# Altium schematic symbol library 5ko.SchLib: 84 symbols
Pins are listed as number, name and electrical type; pins without a type are passive.

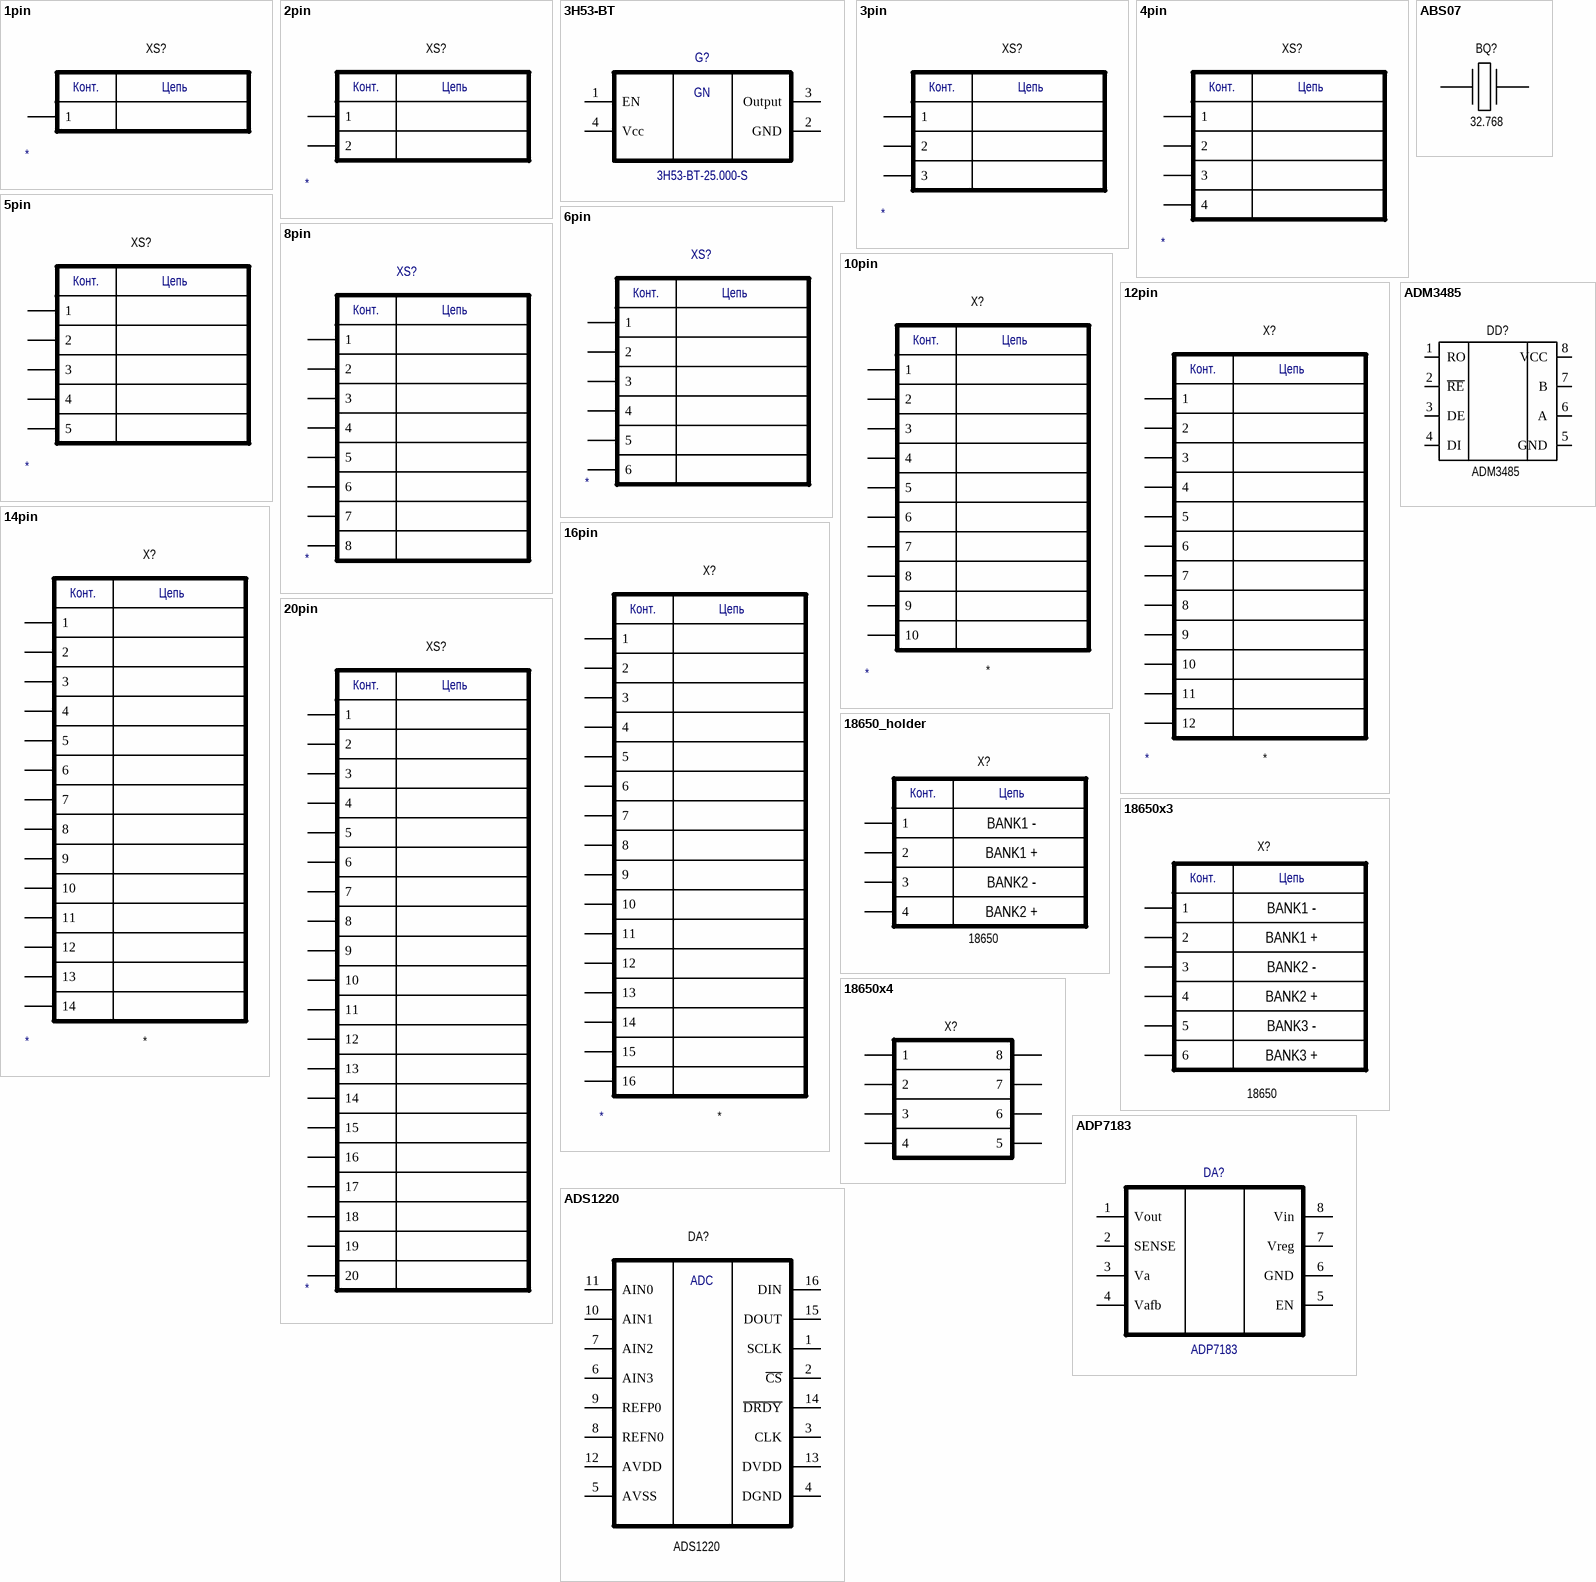
[diagram p0: symbols 1pin to ADS1220]

## 1pin
designator XS?
Manufacturer: *; PartNumber: *
footprint Test_point
footprint lam 4x2
footprint LAM 3x1.5
pins: 1
text: Конт.; Цепь

## 2pin
designator XS?
Manufacturer: *; PartNumber: *
footprint PLS-2
footprint DS1070-2 (PLS-2 with fix)
footprint IPEX
footprint B2B-XH-A (2 pin DC plug)
footprint PKLCS1212E (Buzzer)
pins: 1, 2
text: Конт.; Цепь

## 3H53-BT
designator G?, comment 3H53-BT-25.000-S
footprint GEN_5032 (3H53-BT)
pins: 1 EN, 2 GND, 3 Output, 4 Vcc
text: GN

## 3pin
designator XS?
Manufacturer: *; PartNumber: *
footprint PLS-3
footprint PCB_jumper
footprint СI1103М1V (3pin)
footprint B3B-XH-A (3 pin DC plug)
pins: 1, 2, 3
text: Конт.; Цепь

## 4pin
designator XS?
Manufacturer: *; PartNumber: *
footprint PLS-4
footprint СI1104М1V (4pin)
footprint B4B-XH-A (4 pin DC plug)
pins: 1, 2, 3, 4
text: Конт.; Цепь

## 5pin
designator XS?
Manufacturer: *; PartNumber: *
footprint PLS-5
footprint СI1105М1V (5pin)
pins: 1, 2, 3, 4, 5
text: Конт.; Цепь

## 6pin
designator XS?
Manufacturer: *; PartNumber: *
footprint PLS-6
footprint СI1106М1V (6pin)
footprint PLD-6
pins: 1, 2, 3, 4, 5, 6
text: Конт.; Цепь

## 8pin
designator XS?
Manufacturer: *; PartNumber: *
footprint СI1108М1V (8pin)
footprint PLD-8
footprint PBD-8
footprint 4x18650 (Holder 4x18650)
pins: 1, 2, 3, 4, 5, 6, 7, 8
text: Конт.; Цепь

## 10pin
designator X?
Manufacturer: *; PartNumber: *
footprint СI1110М1V (8pin)
footprint PBD-10
pins: 1, 2, 3, 4, 5, 6, 7, 8, 9, 10
text: Конт.; Цепь

## 12pin
designator X?
Manufacturer: *; PartNumber: *
footprint PBD-12
footprint PLD-12
pins: 1, 2, 3, 4, 5, 6, 7, 8, 9, 10, 11, 12
text: Конт.; Цепь

## 14pin
designator X?
Manufacturer: *; PartNumber: *
footprint PBD-14
footprint PLD-14
pins: 1, 2, 3, 4, 5, 6, 7, 8, 9, 10, 11, 12, 13, 14
text: Конт.; Цепь

## 16pin
designator X?
Manufacturer: *; PartNumber: *
footprint PBD-16
footprint PLD-16
pins: 1, 2, 3, 4, 5, 6, 7, 8, 9, 10, 11, 12, 13, 14, 15, 16
text: Конт.; Цепь

## 20pin
designator XS?
Manufacturer: *; PartNumber: *
footprint 20P-JMDSS-G-1-TF (20 pin plug)
footprint 20R-JMDSS-G-1-TF (20 pin Receptacle)
footprint 20PX.0-JMCS-G-TF (20 pin board-to-board)
footprint 20R-JMCS-G-TF
pins: 1, 2, 3, 4, 5, 6, 7, 8, 9, 10, 11, 12, 13, 14, 15, 16, 17, 18, 19, 20
text: Конт.; Цепь

## 18650_holder
designator X?, comment 18650
footprint 18650_holder
footprint 16-0802-9 (18650 holder)
pins: 1, 2, 3, 4
text: Конт.; Цепь; BANK1 -; BANK1 +; BANK2 -; BANK2 +

## 18650x3
designator X?, comment 18650
pins: 1, 2, 3, 4, 5, 6
text: Конт.; Цепь; BANK1 -; BANK1 +; BANK2 -; BANK2 +; BANK3 -; BANK3 +

## 18650x4
designator X?, comment 4x18650  (value not drawn)
Ruichi 4x18650
footprint 4x18650 (Holder 4x18650)
pins: 1, 2, 3, 4, 5, 6, 7, 8

## ABS07
designator BQ?  value 32.768  (hidden comment: ABS07)
footprint ABS07 (32.768)
pins: 1, 2

## ADM3485
designator DD?
RS485
footprint SOIC8
pins: 1 RO, 2 ~{RE}, 3 DE, 4 DI, 5 GND, 6 A, 7 B, 8 VCC

## ADP7183
designator DA?
footprint LFCSP-8
pins: 1 Vout, 2 SENSE, 3 Va, 4 Vafb, 5 EN, 6 GND, 7 Vreg, 8 Vin

## ADS1220
designator DA?
ADC 4ch
footprint TSSOP-16
pins: 1 SCLK, 2 ~{CS}, 3 CLK, 4 DGND, 5 AVSS, 6 AIN3, 7 AIN2, 8 REFN0, 9 REFP0, 10 AIN1, 11 AIN0, 12 AVDD, 13 DVDD, 14 ~{DRDY}, 15 DOUT, 16 DIN
text: ADC

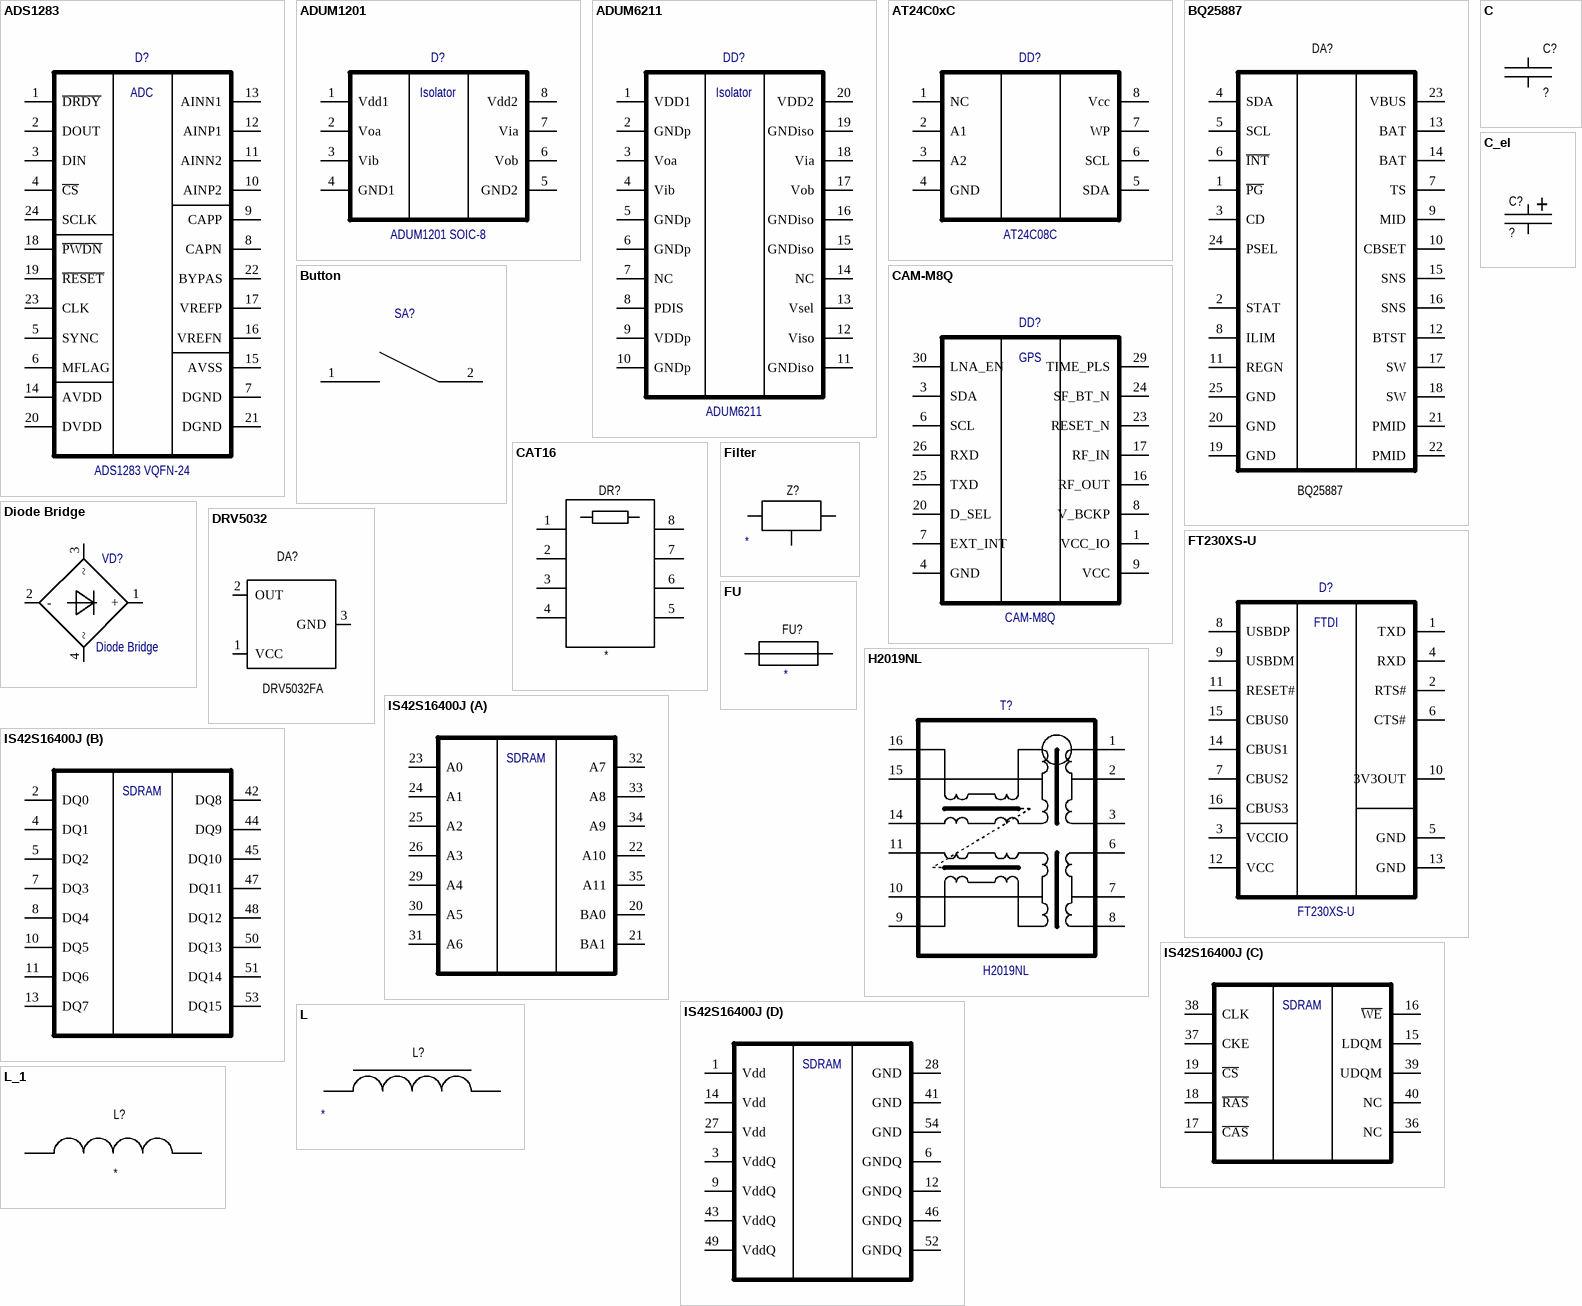
[diagram p1: symbols ADS1283 to L_1]

## ADS1283
designator D?, comment ADS1283 VQFN-24
ADC 2ch
footprint VQFN24_8x8x4x4
pins: 1 ~{DRDY}, 2 DOUT, 3 DIN, 4 ~{CS}, 5 SYNC, 6 MFLAG, 7 DGND, 8 CAPN, 9 CAPP, 10 AINP2, 11 AINN2, 12 AINP1, 13 AINN1, 14 AVDD, 15 AVSS, 16 VREFN, 17 VREFP, 18 ~{PWDN}, 19 ~{RESET}, 20 DVDD, 21 DGND, 22 BYPAS, 23 CLK, 24 SCLK
text: ADC

## ADUM1201
designator D?, comment ADUM1201 SOIC-8
footprint SOIC8
pins: 1 Vdd1, 2 Voa, 3 Vib, 4 GND1, 5 GND2, 6 Vob, 7 Via, 8 Vdd2
text: Isolator

## ADUM6211
designator DD?
footprint SSOP-20 (7.2 х 5.3)
pins: 1 VDD1, 2 GNDp, 3 Voa, 4 Vib, 5 GNDp, 6 GNDp, 7 NC, 8 PDIS, 9 VDDp, 10 GNDp, 11 GNDiso, 12 Viso, 13 Vsel, 14 NC, 15 GNDiso, 16 GNDiso, 17 Vob, 18 Via, 19 GNDiso, 20 VDD2
text: Isolator

## AT24C0xC
designator DD?, comment AT24C08C
footprint SOIC8
pins: 1 NC, 2 A1, 3 A2, 4 GND, 5 SDA, 6 SCL, 7 WP, 8 Vcc

## BQ25887
designator DA?
footprint VQFN-24
pins: 1 ~{PG}, 2 STAT, 3 CD, 4 SDA, 5 SCL, 6 ~{INT}, 7 TS, 8 ILIM, 9 MID, 10 CBSET, 11 REGN, 12 BTST, 13 BAT, 14 BAT, 15 SNS, 16 SNS, 17 SW, 18 SW, 19 GND, 20 GND, 21 PMID, 22 PMID, 23 VBUS, 24 PSEL, 25 GND

## Button
designator SA?  (value not drawn)
footprint KLS7_12x12 (DIP Button)
footprint KLS7_6x6 (SMD Button)
pins: 1, 2

## C
designator C?  (value not drawn)
Tolerance: %; Voltage: В; PartNumber: *; Dielectric: *; Case: *; Mount: *; Value: ?
footprint C0805 (Chip Capacitor, 2-Leads, Body 2,00x1,25mm, IPC Medium Density)
footprint C1206 (Chip Capacitor, 2-Leads, Body 3,20x1,60mm, IPC Medium Density)
footprint C0603
pins: 1, 2

## C_el
designator C?  (value not drawn)
Tolerance: %; Voltage: V; Dielectric: *; PartNumber: *; Case: *; Mount: *; Value: ?
footprint Case A
footprint Case D
footprint CASE B
pins: 1, 2
text: +

## CAM-M8Q
designator DD?
footprint CAM-M8Q
pins: 1 VCC_IO, 3 SDA, 4 GND, 5 GND hidden to GND, 6 SCL, 7 EXT_INT, 8 V_BCKP, 9 VCC, 10 GND hidden to GND, 11 GND hidden to GND, 12 GND hidden to GND, 13 GND hidden to GND, 14 GND hidden to GND, 15 GND hidden to GND, 16 RF_OUT, 17 RF_IN, 18 GND hidden to GND, 19 GND hidden to GND, 20 D_SEL, 21 GND hidden to GND, 22 GND hidden to GND, 23 RESET_N, 24 SF_BT_N, 25 TXD, 26 RXD, 27 GND hidden to GND, 29 TIME_PLS, 30 LNA_EN, 31 GND hidden to GND
text: GPS

## CAT16
designator DR?
footprint CAT16 (Chip Array, Concave, 8-Leads, Pitch 0,80mm,  Body 3,20x1,55mm,  IPC Medium Density)
pins: 1, 2, 3, 4, 5, 6, 7, 8

## Diode Bridge
designator VD?
footprint DF01S
pins: 1 +, 2 -, 3 ~, 4 ~

## DRV5032
designator DA?, comment DRV5032FA
footprint SOT-23
pins: 1 VCC, 2 OUT, 3 GND

## Filter
designator Z?
PartNumber: *; Manufacturer: *; Value: *
footprint NFE61P
pins: 1, 2, 3 GND

## FT230XS-U
designator D?
footprint SSOP-16
pins: 1 TXD, 2 RTS#, 3 VCCIO, 4 RXD, 5 GND, 6 CTS#, 7 CBUS2, 8 USBDP, 9 USBDM, 10 3V3OUT, 11 RESET#, 12 VCC, 13 GND, 14 CBUS1, 15 CBUS0, 16 CBUS3
text: FTDI

## FU
designator FU?
Manufacturer: *; Voltage: *; Current: *; Case: *; PartNumber: *
footprint MF-R090 (Предохранитель 900 мА, 60 В)
footprint Fuse
pins: 1, 2

## H2019NL
designator T?
footprint SO16_H2019NL_PUL
pins: 1, 2, 3, 6, 7, 8, 9, 10, 11, 14, 15, 16

## IS42S16400J
designator *  (value not drawn)
footprint TSOP-54 (TSOP, 54-Leads, Body 22.22x10.16mm, Pitch 0.80mm, IPC Medium Density)
part A pins: 20 BA0, 21 BA1, 22 A10, 23 A0, 24 A1, 25 A2, 26 A3, 29 A4, 30 A5, 31 A6, 32 A7, 33 A8, 34 A9, 35 A11
part B pins: 2 DQ0, 4 DQ1, 5 DQ2, 7 DQ3, 8 DQ4, 10 DQ5, 11 DQ6, 13 DQ7, 42 DQ8, 44 DQ9, 45 DQ10, 47 DQ11, 48 DQ12, 50 DQ13, 51 DQ14, 53 DQ15
part C pins: 15 LDQM, 16 ~{WE}, 17 ~{CAS}, 18 ~{RAS}, 19 ~{CS}, 36 NC, 37 CKE, 38 CLK, 39 UDQM, 40 NC
part D pins: 1 Vdd, 3 VddQ, 6 GNDQ, 9 VddQ, 12 GNDQ, 14 Vdd, 27 Vdd, 28 GND, 41 GND, 43 VddQ, 46 GNDQ, 49 VddQ, 52 GNDQ, 54 GND
part A text: SDRAM
part B text: SDRAM
part C text: SDRAM
part D text: SDRAM

## L
designator L?
Manufacturer: *; PartNumber: *; Value: *
footprint Ind_6.5x6.5
footprint IND_6.5x6.5_VISHAY
footprint INDC_0603 (Chip Inductor, 2-Leads, Body 1,60x1,00mm, IPC Medium Density)
footprint INDC3225X170N (Chip Inductor, 2-Leads, Body 3.2x2.5mm, IPC Medium Density)
pins: 1, 2

## L_1
designator L?
footprint Ind_6.5x6.5
footprint IND_6.5x6.5_VISHAY
footprint INDC_0603 (Chip Inductor, 2-Leads, Body 1,60x1,00mm, IPC Medium Density)
footprint INDC3225X170N (Chip Inductor, 2-Leads, Body 3.2x2.5mm, IPC Medium Density)
pins: 1, 2

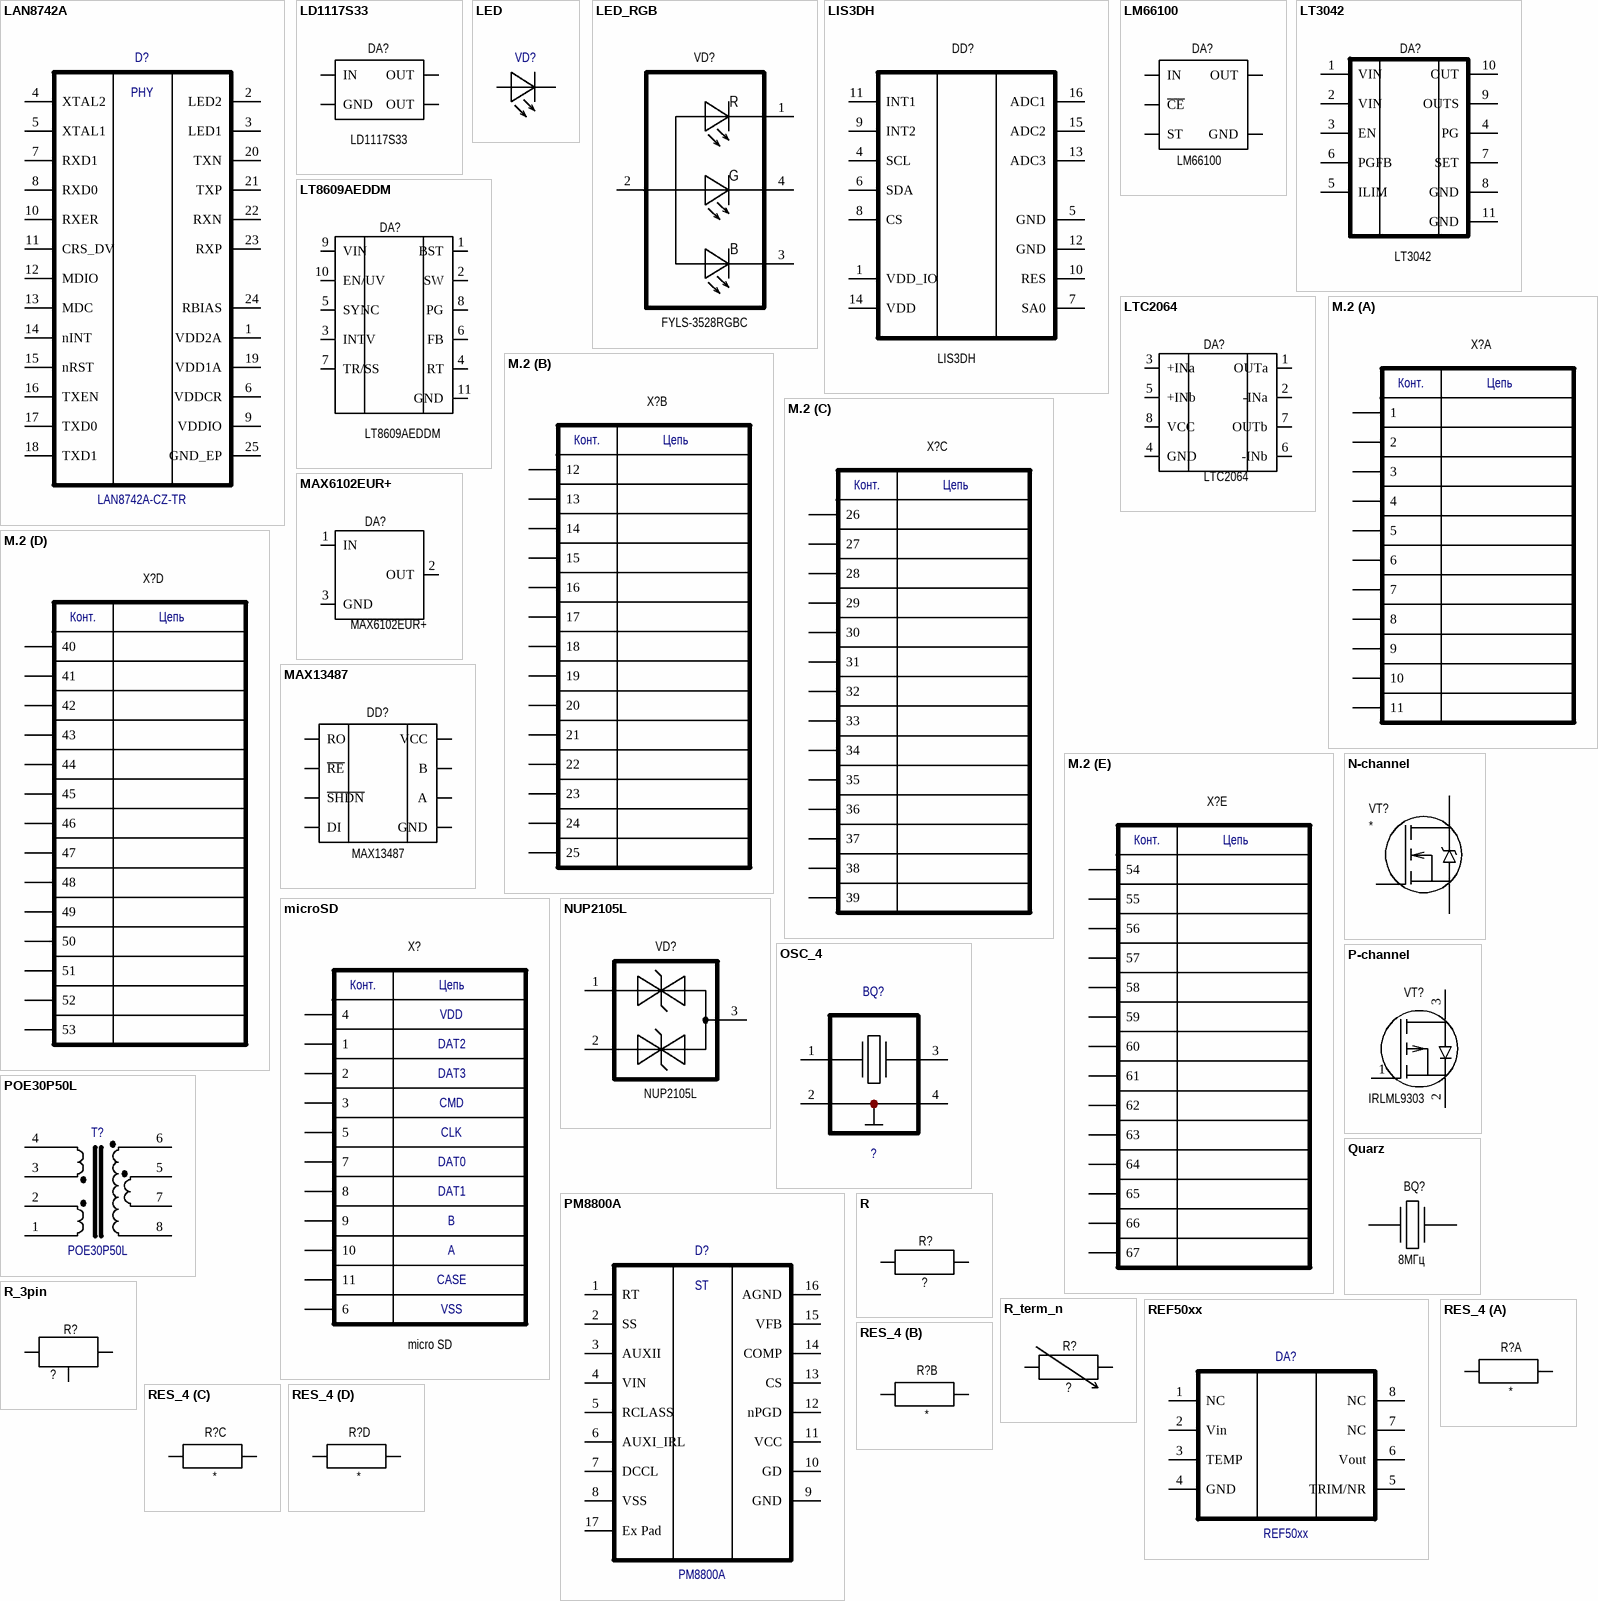
[diagram p2: symbols LAN8742A to RES_4]

## LAN8742A
designator D?, comment LAN8742A-CZ-TR
Ethernet
footprint QFN50P400X400X80-25N (QFN, 24-Leads with exposed die pad, Body 4.05x4.05mm (max), Pitch 0.50mm, IPC Medium Density)
pins: 1 VDD2A, 2 LED2, 3 LED1, 4 XTAL2, 5 XTAL1, 6 VDDCR, 7 RXD1, 8 RXD0, 9 VDDIO, 10 RXER, 11 CRS_DV, 12 MDIO, 13 MDC, 14 nINT, 15 nRST, 16 TXEN, 17 TXD0, 18 TXD1, 19 VDD1A, 20 TXN, 21 TXP, 22 RXN, 23 RXP, 24 RBIAS, 25 GND_EP
text: PHY

## LD1117S33
designator DA?
footprint SOT-223
pins: 1 GND, 2 OUT, 3 IN, 4 OUT

## LED
designator VD?
footprint LED_0805
footprint LED_0603_BLUE
footprint LED_0603_GREEN
footprint LED_0603_RED
footprint LED_0603_WHITE
footprint LED_0603_YELLOW
pins: 1 A, 2 C

## LED_RGB
designator VD?, comment FYLS-3528RGBC
footprint LED_RGB
pins: 1, 2, 3, 4
text: R; G; B

## LIS3DH
designator DD?
footprint LGA-16
pins: 1 VDD_IO, 4 SCL, 5 GND, 6 SDA, 7 SA0, 8 CS, 9 INT2, 10 RES, 11 INT1, 12 GND, 13 ADC3, 14 VDD, 15 ADC2, 16 ADC1

## LM66100
designator DA?
footprint SOT-363
pins: 1 IN, 2 GND, 3 ~{CE}, 5 ST, 6 OUT

## LT3042
designator DA?
footprint DFN-10 3x3
footprint MSOP-10
pins: 1 VIN, 2 VIN, 3 EN, 4 PG, 5 ILIM, 6 PGFB, 7 SET, 8 GND, 9 OUTS, 10 OUT, 11 GND

## LT8609AEDDM
designator DA?
footprint SON-10 (SON, 10-Leads, Body 3,00x3,00mm, Pitch 0,50mm, Thermal Pad 2,40x1,65mm, IPC Medium Density)
pins: 1 BST, 2 SW, 3 INTV, 4 RT, 5 SYNC, 6 FB, 7 TR/SS, 8 PG, 9 VIN, 10 EN/UV, 11 GND

## LTC2064
designator DA?
footprint MSOP8
pins: 1 OUTa, 2 -INa, 3 +INa, 4 GND, 5 +INb, 6 -INb, 7 OUTb, 8 VCC

## M.2
designator X?  (value not drawn)
footprint M.2_LoRa
footprint M.2_POE
footprint M.2 - 1-2199230-4
footprint M.2 - 1-2199230-4 EDGE
footprint M.2 - 2199230-5
footprint M.2 - 2199230-5 EDGE
part A pins: 1, 2, 3, 4, 5, 6, 7, 8, 9, 10, 11
part B pins: 12, 13, 14, 15, 16, 17, 18, 19, 20, 21, 22, 23, 24, 25
part C pins: 26, 27, 28, 29, 30, 31, 32, 33, 34, 35, 36, 37, 38, 39
part D pins: 40, 41, 42, 43, 44, 45, 46, 47, 48, 49, 50, 51, 52, 53
part E pins: 54, 55, 56, 57, 58, 59, 60, 61, 62, 63, 64, 65, 66, 67
part A text: Конт.; Цепь
part B text: Конт.; Цепь
part C text: Конт.; Цепь
part D text: Конт.; Цепь
part E text: Конт.; Цепь

## MAX6102EUR+
designator DA?
footprint SOT-23
pins: 1 IN, 2 OUT, 3 GND

## MAX13487
designator DD?
RS485
footprint SOIC8
pins: 1 RO, 2 ~{RE}, 3 ~{SHDN}, 4 DI, 5 GND, 6 A, 7 B, 8 VCC

## microSD
designator X?, comment micro SD
footprint DM3AT-SF-PEJM5 (Micro SD)
pins: 1, 2, 3, 4, 5, 6, 7, 8, 9, 10, 11
text: Конт.; Цепь; VDD; DAT2; DAT3; CMD; CLK; DAT0; DAT1; B; A; CASE; VSS

## N-channel
designator VT?
footprint SOT-23
pins: 1 G, 2 S, 3 D

## NUP2105L
designator VD?
footprint SOT-23
pins: 1 A, 2 C, 3 AC

## OSC_4
designator BQ?, comment ?
PartNumber: KX-9AT 8.0 MHZ; Package: QSMD5.0x3.2x1.0; Value: ?
footprint Crystal_0532
pins: 1, 2, 3, 4

## P-channel
designator VT?, comment IRLML9303
footprint SOT-23
footprint SOT-223 (mosfet)
pins: 1 G, 2 S, 3 D

## PM8800A
designator D?
footprint HTSSOP-16 (HTSOP, 16-Leads, Body 5,00x4,40mm, Pitch 0,65mm, IPC Medium Density)
pins: 1 RT, 2 SS, 3 AUXII, 4 VIN, 5 RCLASS, 6 AUXI_IRL, 7 DCCL, 8 VSS, 9 GND, 10 GD, 11 VCC, 12 nPGD, 13 CS, 14 COMP, 15 VFB, 16 AGND, 17 Ex Pad
text: ST

## POE30P50L
designator T?
footprint POExxP
pins: 1, 2, 3, 4, 5, 6, 7, 8

## Quarz
designator BQ?  value 8МГц
footprint HC-49
footprint Crystal_0532
pins: 1, 2

## R
designator R?  (value not drawn)
Tolerance: %; Power: Вт; PartNumber: ?; Case: *; Value: ?
footprint R0603
footprint R1206 (Chip Resistor, 2-Leads, Body 3,15x1,60mm, IPC Medium Density)
footprint R0805
pins: 1, 2

## R_3pin
designator R?  (value not drawn)
Tolerance: %; Power: Вт; PartNumber: ?; Case: *; Value: ?
footprint R0603-3
pins: 1, 2, 3

## R_term_n
designator R?  (value not drawn)
Value: ?
footprint R0603
footprint R1206
footprint R0805
pins: 1, 2

## REF50xx
designator DA?
footprint SOIC8
pins: 1 NC, 2 Vin, 3 TEMP, 4 GND, 5 TRIM/NR, 6 Vout, 7 NC, 8 NC

## RES_4
designator R?
Case: *; PartNumber: *; Power: *; Tolerance: *; Value: *
footprint CAT16 (Chip Array, Concave, 8-Leads, Pitch 0,80mm,  Body 3,20x1,55mm,  IPC Medium Density)
part A pins: 1, 8
part B pins: 2, 7
part C pins: 3, 6
part D pins: 4, 5

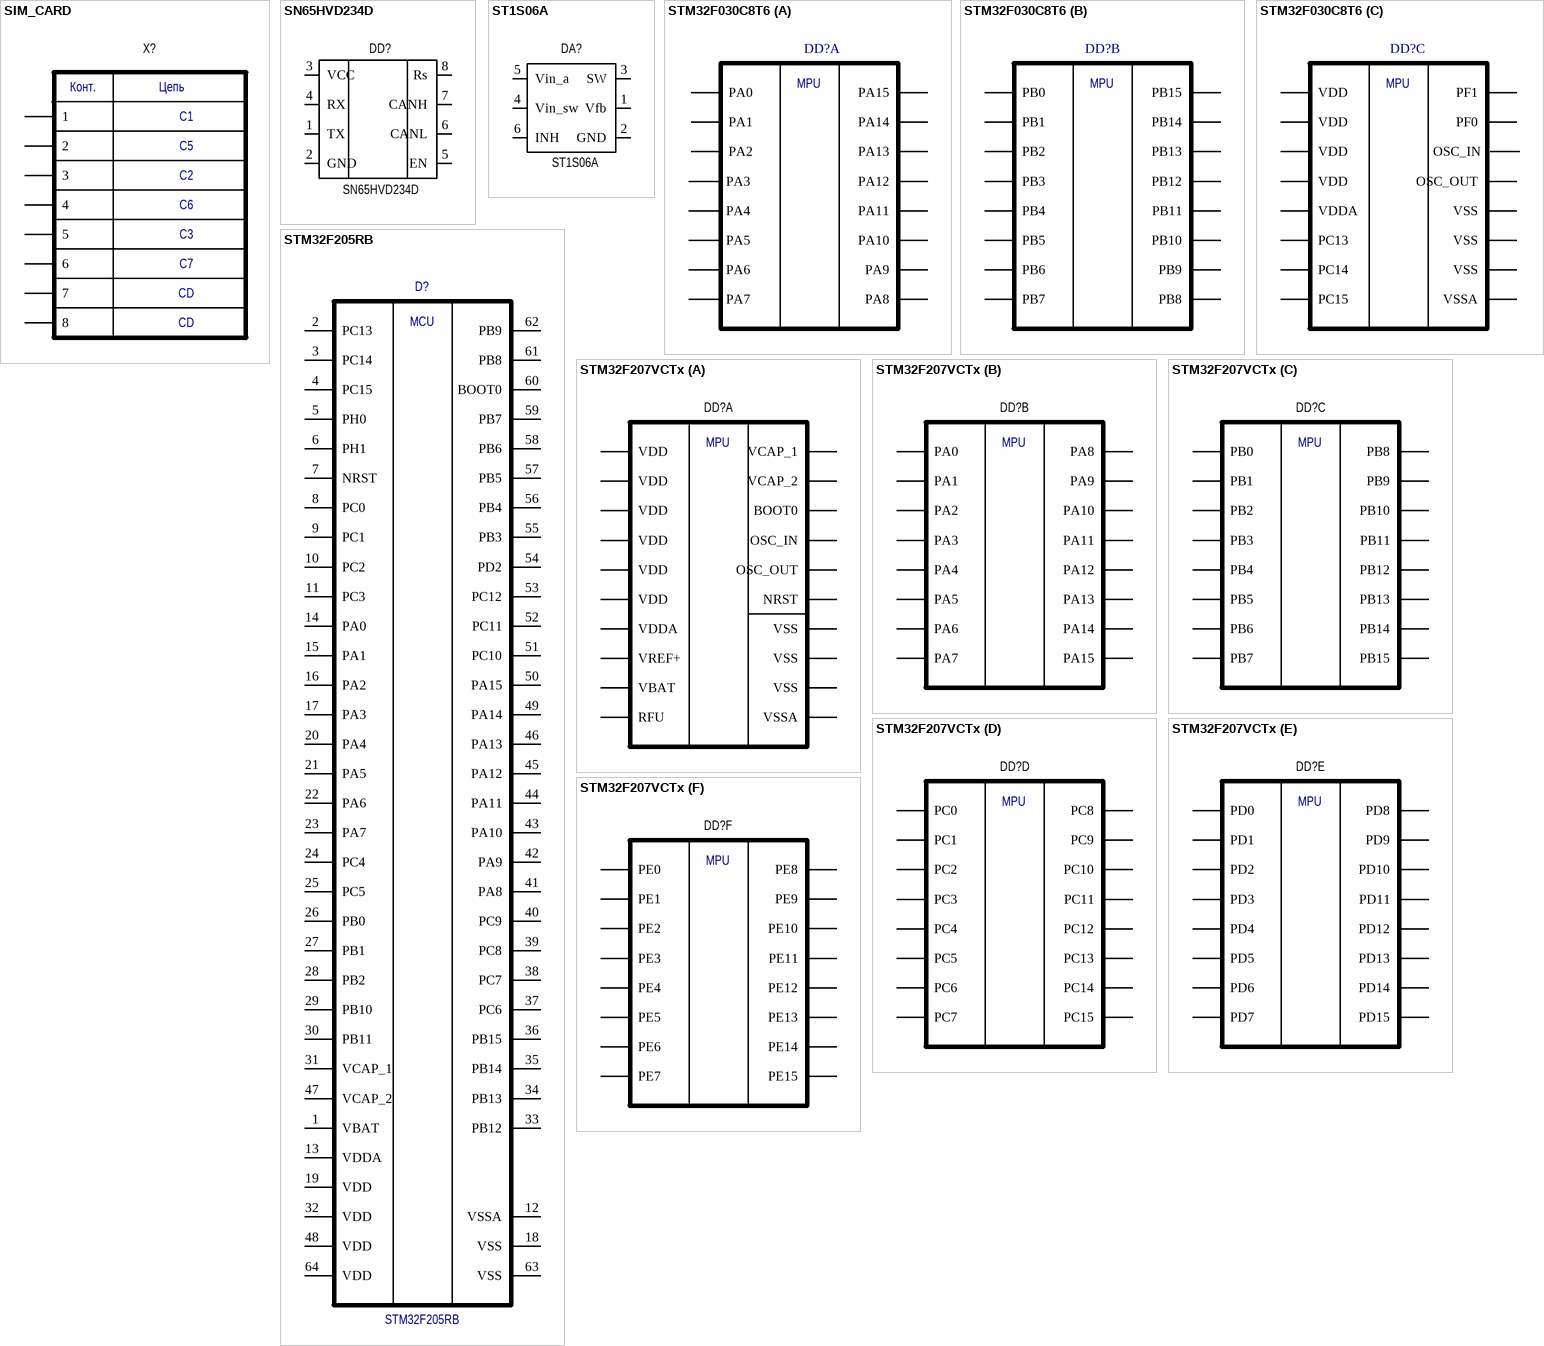
[diagram p3: symbols SIM_CARD to STM32F207VCTx]

## SIM_CARD
designator X?  (value not drawn)
footprint SIM_CARD_READER2
pins: 1, 2, 3, 4, 5, 6, 7, 8
text: Конт.; Цепь; С1; С5; С2; С6; С3; C7; CD

## SN65HVD234D
designator DD?
CAN
footprint SOIC8
pins: 1 TX, 2 GND, 3 VCC, 4 RX, 5 EN, 6 CANL, 7 CANH, 8 Rs

## ST1S06A
designator DA?
footprint DFN6
pins: 1 Vfb, 2 GND, 3 SW, 4 Vin_sw, 5 Vin_a, 6 INH

## STM32F030C8T6
designator DD?  (value not drawn)
part A pins: 97 PA0, 98 PA1, 99 PA2, 100 PA3, 101 PA4, 102 PA5, 103 PA6, 104 PA7, 105 PA8, 106 PA9, 107 PA10, 108 PA11, 109 PA12, 110 PA13, 111 PA14, 112 PA15
part B pins: 97 PB0, 98 PB1, 99 PB2, 100 PB3, 101 PB4, 102 PB5, 103 PB6, 104 PB7, 105 PB8, 106 PB9, 107 PB10, 108 PB11, 109 PB12, 110 PB13, 111 PB14, 112 PB15
part C pins: 97 VDD, 98 VDD, 99 VDD, 100 VDD, 101 VDDA, 102 PC13, 103 PC14, 104 PC15, 105 VSSA, 106 VSS, 107 VSS, 108 OSC_OUT, 108 VSS, 109 OSC_IN, 111 PF0, 112 PF1
part A text: MPU
part B text: MPU
part C text: MPU

## STM32F205RB
designator D?
footprint LQFP64 (TSQFP, 64-Leads, Body 10,00x10,00mm, Pitch 0,50mm, IPC Medium Density)
pins: 1 VBAT, 2 PC13, 3 PC14, 4 PC15, 5 PH0, 6 PH1, 7 NRST, 8 PC0, 9 PC1, 10 PC2, 11 PC3, 12 VSSA, 13 VDDA, 14 PA0, 15 PA1, 16 PA2, 17 PA3, 18 VSS, 19 VDD, 20 PA4, 21 PA5, 22 PA6, 23 PA7, 24 PC4, 25 PC5, 26 PB0, 27 PB1, 28 PB2, 29 PB10, 30 PB11, 31 VCAP_1, 32 VDD, 33 PB12, 34 PB13, 35 PB14, 36 PB15, 37 PC6, 38 PC7, 39 PC8, 40 PC9, 41 PA8, 42 PA9, 43 PA10, 44 PA11, 45 PA12, 46 PA13, 47 VCAP_2, 48 VDD, 49 PA14, 50 PA15, 51 PC10, 52 PC11, 53 PC12, 54 PD2, 55 PB3, 56 PB4, 57 PB5, 58 PB6, 59 PB7, 60 BOOT0, 61 PB8, 62 PB9, 63 VSS, 64 VDD
text: MCU

## STM32F207VCTx
designator DD?  (value not drawn)
footprint LQFP100
part A pins: 6 VBAT, 10 VSS, 11 VDD, 12 OSC_IN, 13 OSC_OUT, 14 NRST, 19 VDD, 20 VSSA, 21 VREF+, 22 VDDA, 27 VSS, 28 VDD, 49 VCAP_1, 50 VDD, 73 VCAP_2, 74 VSS, 75 VDD, 94 BOOT0, 99 RFU, 100 VDD
part B pins: 23 PA0, 24 PA1, 25 PA2, 26 PA3, 29 PA4, 30 PA5, 31 PA6, 32 PA7, 67 PA8, 68 PA9, 69 PA10, 70 PA11, 71 PA12, 72 PA13, 76 PA14, 77 PA15
part C pins: 35 PB0, 36 PB1, 37 PB2, 47 PB10, 48 PB11, 51 PB12, 52 PB13, 53 PB14, 54 PB15, 89 PB3, 90 PB4, 91 PB5, 92 PB6, 93 PB7, 95 PB8, 96 PB9
part D pins: 7 PC13, 8 PC14, 9 PC15, 15 PC0, 16 PC1, 17 PC2, 18 PC3, 33 PC4, 34 PC5, 63 PC6, 64 PC7, 65 PC8, 66 PC9, 78 PC10, 79 PC11, 80 PC12
part E pins: 55 PD8, 56 PD9, 57 PD10, 58 PD11, 59 PD12, 60 PD13, 61 PD14, 62 PD15, 81 PD0, 82 PD1, 83 PD2, 84 PD3, 85 PD4, 86 PD5, 87 PD6, 88 PD7
part F pins: 1 PE2, 2 PE3, 3 PE4, 4 PE5, 5 PE6, 38 PE7, 39 PE8, 40 PE9, 41 PE10, 42 PE11, 43 PE12, 44 PE13, 45 PE14, 46 PE15, 97 PE0, 98 PE1
part A text: MPU
part B text: MPU
part C text: MPU
part D text: MPU
part E text: MPU
part F text: MPU

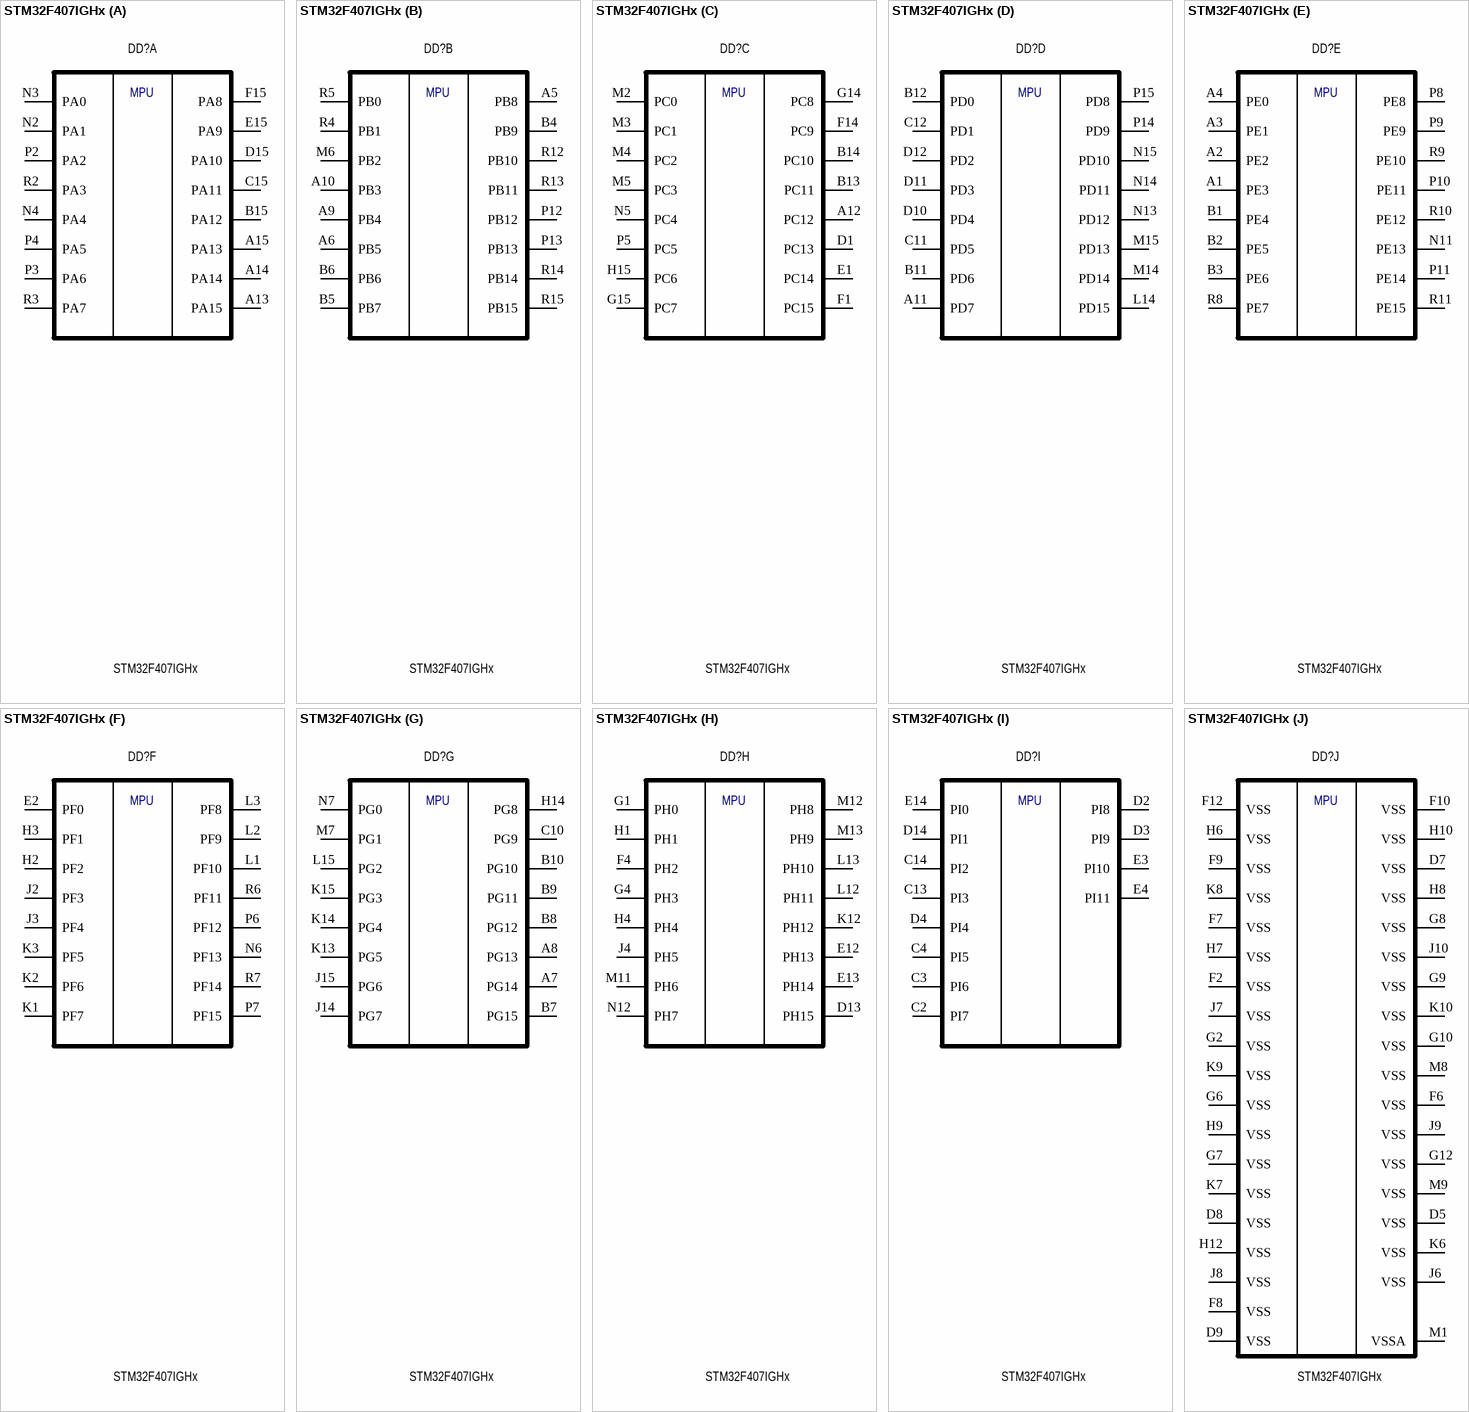
[diagram p4: symbol STM32F407IGHx]

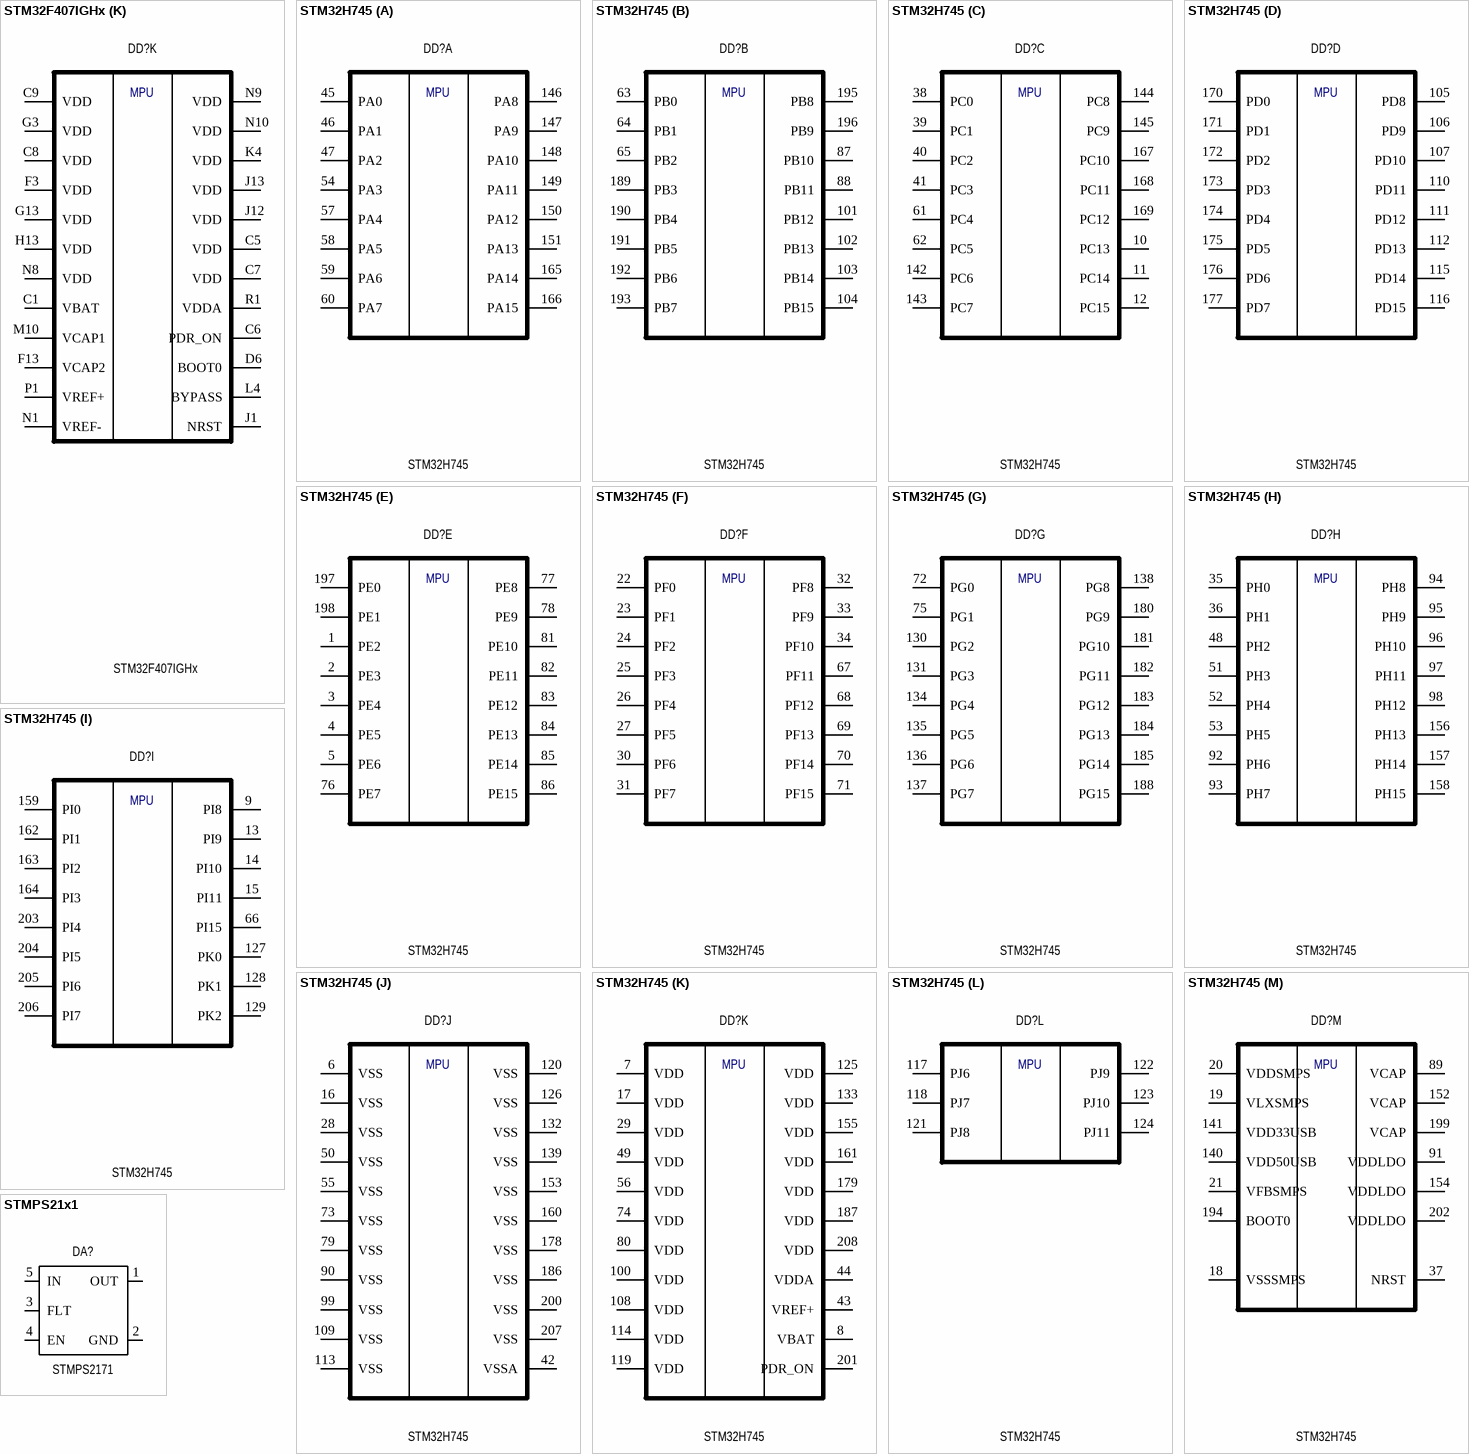
[diagram p5: symbols STM32F407IGHx to STMPS21x1]

## STM32F407IGHx
designator DD?
footprint UFBGA176+25
part A pins: A13 PA15, A14 PA14, A15 PA13, B15 PA12, C15 PA11, D15 PA10, E15 PA9, F15 PA8, N2 PA1, N3 PA0, N4 PA4, P2 PA2, P3 PA6, P4 PA5, R2 PA3, R3 PA7
part B pins: A5 PB8, A6 PB5, A9 PB4, A10 PB3, B4 PB9, B5 PB7, B6 PB6, M6 PB2, P12 PB12, P13 PB13, R4 PB1, R5 PB0, R12 PB10, R13 PB11, R14 PB14, R15 PB15
part C pins: A12 PC12, B13 PC11, B14 PC10, D1 PC13, E1 PC14, F1 PC15, F14 PC9, G14 PC8, G15 PC7, H15 PC6, M2 PC0, M3 PC1, M4 PC2, M5 PC3, N5 PC4, P5 PC5
part D pins: A11 PD7, B11 PD6, B12 PD0, C11 PD5, C12 PD1, D10 PD4, D11 PD3, D12 PD2, L14 PD15, M14 PD14, M15 PD13, N13 PD12, N14 PD11, N15 PD10, P14 PD9, P15 PD8
part E pins: A1 PE3, A2 PE2, A3 PE1, A4 PE0, B1 PE4, B2 PE5, B3 PE6, N11 PE13, P8 PE8, P9 PE9, P10 PE11, P11 PE14, R8 PE7, R9 PE10, R10 PE12, R11 PE15
part F pins: E2 PF0, H2 PF2, H3 PF1, J2 PF3, J3 PF4, K1 PF7, K2 PF6, K3 PF5, L1 PF10, L2 PF9, L3 PF8, N6 PF13, P6 PF12, P7 PF15, R6 PF11, R7 PF14
part G pins: A7 PG14, A8 PG13, B7 PG15, B8 PG12, B9 PG11, B10 PG10, C10 PG9, H14 PG8, J14 PG7, J15 PG6, K13 PG5, K14 PG4, K15 PG3, L15 PG2, M7 PG1, N7 PG0
part H pins: D13 PH15, E12 PH13, E13 PH14, F4 PH2, G1 PH0, G4 PH3, H1 PH1, H4 PH4, J4 PH5, K12 PH12, L12 PH11, L13 PH10, M11 PH6, M12 PH8, M13 PH9, N12 PH7
part I pins: C2 PI7, C3 PI6, C4 PI5, C13 PI3, C14 PI2, D2 PI8, D3 PI9, D4 PI4, D14 PI1, E3 PI10, E4 PI11, E14 PI0
part J pins: D5 VSS, D7 VSS, D8 VSS, D9 VSS, F2 VSS, F6 VSS, F7 VSS, F8 VSS, F9 VSS, F10 VSS, F12 VSS, G2 VSS, G6 VSS, G7 VSS, G8 VSS, G9 VSS, G10 VSS, G12 VSS, H6 VSS, H7 VSS, H8 VSS, H9 VSS, H10 VSS, H12 VSS, J6 VSS, J7 VSS, J8 VSS, J9 VSS, J10 VSS, K6 VSS, K7 VSS, K8 VSS, K9 VSS, K10 VSS, M1 VSSA, M8 VSS, M9 VSS
part K pins: C1 VBAT, C5 VDD, C6 PDR_ON, C7 VDD, C8 VDD, C9 VDD, D6 BOOT0, F3 VDD, F13 VCAP2, G3 VDD, G13 VDD, H13 VDD, J1 NRST, J12 VDD, J13 VDD, K4 VDD, L4 BYPASS, M10 VCAP1, N1 VREF-, N8 VDD, N9 VDD, N10 VDD, P1 VREF+, R1 VDDA
part A text: MPU
part B text: MPU
part C text: MPU
part D text: MPU
part E text: MPU
part F text: MPU
part G text: MPU
part H text: MPU
part I text: MPU
part J text: MPU
part K text: MPU

## STM32H745
designator DD?
footprint LQFP208 (TSQFP, 208-Leads, Body 28.00x28.00mm, Pitch 0.50mm, IPC Medium Density)
part A pins: 45 PA0, 46 PA1, 47 PA2, 54 PA3, 57 PA4, 58 PA5, 59 PA6, 60 PA7, 146 PA8, 147 PA9, 148 PA10, 149 PA11, 150 PA12, 151 PA13, 165 PA14, 166 PA15
part B pins: 63 PB0, 64 PB1, 65 PB2, 87 PB10, 88 PB11, 101 PB12, 102 PB13, 103 PB14, 104 PB15, 189 PB3, 190 PB4, 191 PB5, 192 PB6, 193 PB7, 195 PB8, 196 PB9
part C pins: 10 PC13, 11 PC14, 12 PC15, 38 PC0, 39 PC1, 40 PC2, 41 PC3, 61 PC4, 62 PC5, 142 PC6, 143 PC7, 144 PC8, 145 PC9, 167 PC10, 168 PC11, 169 PC12
part D pins: 105 PD8, 106 PD9, 107 PD10, 110 PD11, 111 PD12, 112 PD13, 115 PD14, 116 PD15, 170 PD0, 171 PD1, 172 PD2, 173 PD3, 174 PD4, 175 PD5, 176 PD6, 177 PD7
part E pins: 1 PE2, 2 PE3, 3 PE4, 4 PE5, 5 PE6, 76 PE7, 77 PE8, 78 PE9, 81 PE10, 82 PE11, 83 PE12, 84 PE13, 85 PE14, 86 PE15, 197 PE0, 198 PE1
part F pins: 22 PF0, 23 PF1, 24 PF2, 25 PF3, 26 PF4, 27 PF5, 30 PF6, 31 PF7, 32 PF8, 33 PF9, 34 PF10, 67 PF11, 68 PF12, 69 PF13, 70 PF14, 71 PF15
part G pins: 72 PG0, 75 PG1, 130 PG2, 131 PG3, 134 PG4, 135 PG5, 136 PG6, 137 PG7, 138 PG8, 180 PG9, 181 PG10, 182 PG11, 183 PG12, 184 PG13, 185 PG14, 188 PG15
part H pins: 35 PH0, 36 PH1, 48 PH2, 51 PH3, 52 PH4, 53 PH5, 92 PH6, 93 PH7, 94 PH8, 95 PH9, 96 PH10, 97 PH11, 98 PH12, 156 PH13, 157 PH14, 158 PH15
part I pins: 9 PI8, 13 PI9, 14 PI10, 15 PI11, 66 PI15, 127 PK0, 128 PK1, 129 PK2, 159 PI0, 162 PI1, 163 PI2, 164 PI3, 203 PI4, 204 PI5, 205 PI6, 206 PI7
part J pins: 6 VSS, 16 VSS, 28 VSS, 42 VSSA, 50 VSS, 55 VSS, 73 VSS, 79 VSS, 90 VSS, 99 VSS, 109 VSS, 113 VSS, 120 VSS, 126 VSS, 132 VSS, 139 VSS, 153 VSS, 160 VSS, 178 VSS, 186 VSS, 200 VSS, 207 VSS
part K pins: 7 VDD, 8 VBAT, 17 VDD, 29 VDD, 43 VREF+, 44 VDDA, 49 VDD, 56 VDD, 74 VDD, 80 VDD, 100 VDD, 108 VDD, 114 VDD, 119 VDD, 125 VDD, 133 VDD, 155 VDD, 161 VDD, 179 VDD, 187 VDD, 201 PDR_ON, 208 VDD
part L pins: 117 PJ6, 118 PJ7, 121 PJ8, 122 PJ9, 123 PJ10, 124 PJ11
part M pins: 18 VSSSMPS, 19 VLXSMPS, 20 VDDSMPS, 21 VFBSMPS, 37 NRST, 89 VCAP, 91 VDDLDO, 140 VDD50USB, 141 VDD33USB, 152 VCAP, 154 VDDLDO, 194 BOOT0, 199 VCAP, 202 VDDLDO
part A text: MPU
part B text: MPU
part C text: MPU
part D text: MPU
part E text: MPU
part F text: MPU
part G text: MPU
part H text: MPU
part I text: MPU
part J text: MPU
part K text: MPU
part L text: MPU
part M text: MPU

## STMPS21x1
designator DA?, comment STMPS2171
Manufacturer: STMicroelectronics
footprint SOT-23-5
pins: 1 OUT, 2 GND, 3 FLT, 4 EN, 5 IN

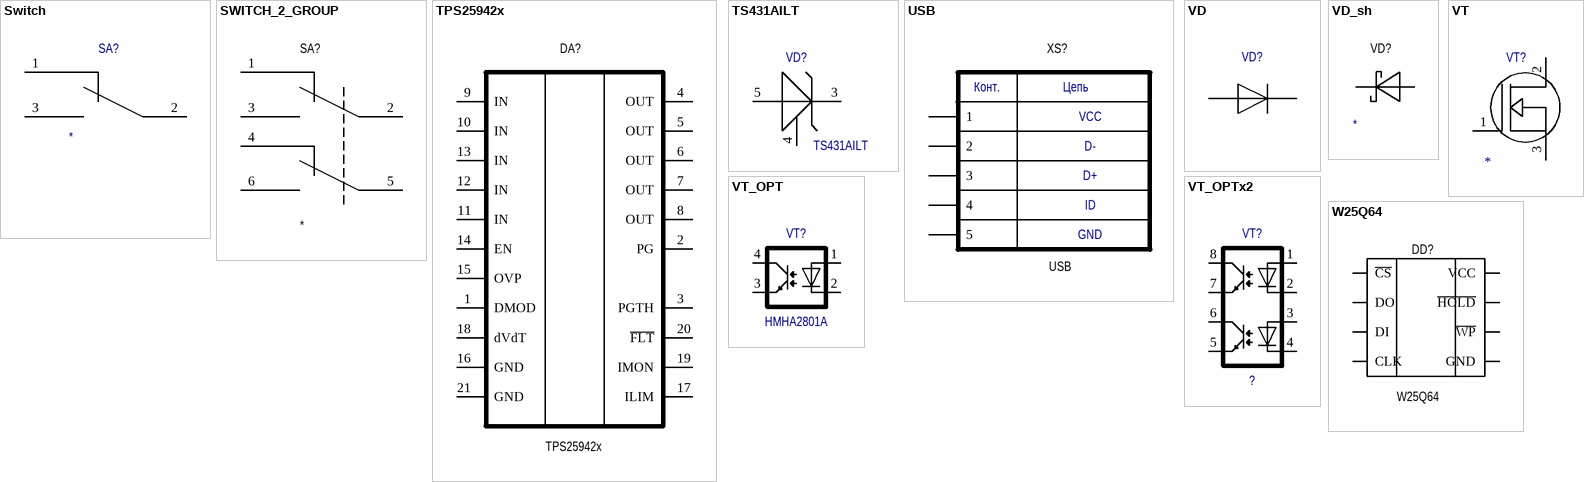
[diagram p6: symbols Switch to W25Q64]

## Switch
designator SA?  (value not drawn)
Manufacturer: *; PartNumber: *
footprint 8BS81 (Button)
footprint SMTS-102
footprint KLS7-SS03-12D02 (Slide Switch)
pins: 1, 2, 3

## SWITCH_2_GROUP
designator SA?
footprint SMTS-202
pins: 1, 2, 3, 4, 5, 6

## TPS25942x
designator DA?
footprint WQFN-20
pins: 1 DMOD, 2 PG, 3 PGTH, 4 OUT, 5 OUT, 6 OUT, 7 OUT, 8 OUT, 9 IN, 10 IN, 11 IN, 12 IN, 13 IN, 14 EN, 15 OVP, 16 GND, 17 ILIM, 18 dVdT, 19 IMON, 20 ~{FLT}, 21 GND

## TS431AILT
designator VD?
footprint SOT-23-5
pins: 3 Cathode, 4 Ref, 5 Anode

## USB
designator XS?
footprint USB-micro
footprint USB_vertical
footprint USB_MICRO_1981568-1 (1981568-1)
footprint USB3145-30-1 (Vertical Micro USB)
pins: 1, 2, 3, 4, 5
text: Конт.; Цепь; VCC; D-; D+; ID; GND

## VD
designator VD?
Voltage: ?; Value: *
footprint SOD323F (SODFL, 2-Leads, Body 1.25x2.50mm, IPC Medium Density)
pins: 1, 2

## VD_sh
designator VD?
Manufacturer: *; Voltage: *; Current: *; Case: *; PartNumber: *
footprint SOD323F
footprint DO-214AA (Molded Diode, 2-Leads, Body 4,31x3,62mm, IPC Medium Density)
footprint DO-214AC (JEDEC DO214 variation AC. SMA)
pins: 1 A, 2 C

## VT
designator VT?
Voltage: ?; Value: *
footprint SOT-223
pins: 1, 2, 3

## VT_OPT
designator VT?, comment HMHA2801A
Voltage: ?
footprint SMD4_2P69X4P40_ONS-L
pins: 1, 2, 3, 4

## VT_OPTх2
designator VT?, comment ?
Voltage: ?
footprint SOIC8-opto
pins: 1, 2, 3, 4, 5, 6, 7, 8

## W25Q64
designator DD?
footprint SOIC8
pins: 1 ~{CS}, 2 DO, 3 ~{WP}, 4 GND, 5 DI, 6 CLK, 7 ~{HOLD}, 8 VCC